# Altium schematic symbol library ICL7107CPL.SchLib: 1 symbol
Pins are listed as number, name and electrical type; pins without a type are passive.

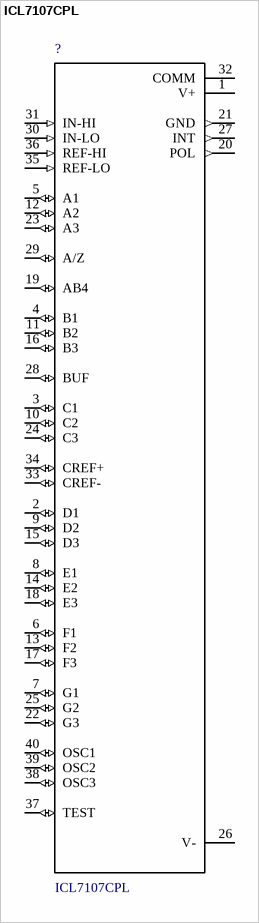
[diagram p0: symbol ICL7107CPL]

## ICL7107CPL
designator ?
ADC Single Dual Slope 3 1/2Digit LED 40-Pin PDIP; MP: ICL7107CPL+; MF: Maxim Integrated; Digi-Key_Part_Number: ICL7107CPL+-ND; Package: PDIP-40 Maxim; Digi-Key_Purchase_URL: https://www.digikey.com.tr/product-detail/en/maxim-integrated/ICL7107CPL-/ICL7107CPL--ND/1098984?utm_source=snapeda&utm_medium=aggregator&utm_campaign=symbol; SnapEDA_Link: https://www.snapeda.com/parts/ICL7107CPL%2B/Maxim%20Integrated/view-part/435813/?ref=snap; Value: *
footprint *DIP1524W46P254L5271H508Q40
pins: 1 V+ (power), 2 D1 (io), 3 C1 (io), 4 B1 (io), 5 A1 (io), 6 F1 (io), 7 G1 (io), 8 E1 (io), 9 D2 (io), 10 C2 (io), 11 B2 (io), 12 A2 (io), 13 F2 (io), 14 E2 (io), 15 D3 (io), 16 B3 (io), 17 F3 (io), 18 E3 (io), 19 AB4 (io), 20 POL (out), 21 GND (out), 22 G3 (io), 23 A3 (io), 24 C3 (io), 25 G2 (io), 26 V- (power), 27 INT (out), 28 BUF (io), 29 A/Z (io), 30 IN-LO (in), 31 IN-HI (in), 32 COMM (power), 33 CREF- (io), 34 CREF+ (io), 35 REF-LO (in), 36 REF-HI (in), 37 TEST (io), 38 OSC3 (io), 39 OSC2 (io), 40 OSC1 (io)